# EAGLE library part EC12D1524403 (library EC12D1524403)
17,5mm Vertical encoder 15 Pulses 30 DET Source: Datasheet <https://www.alps.com/prod/info/E/HTML/Encoder/Incremental/EC12E/EC12D1524403.html>
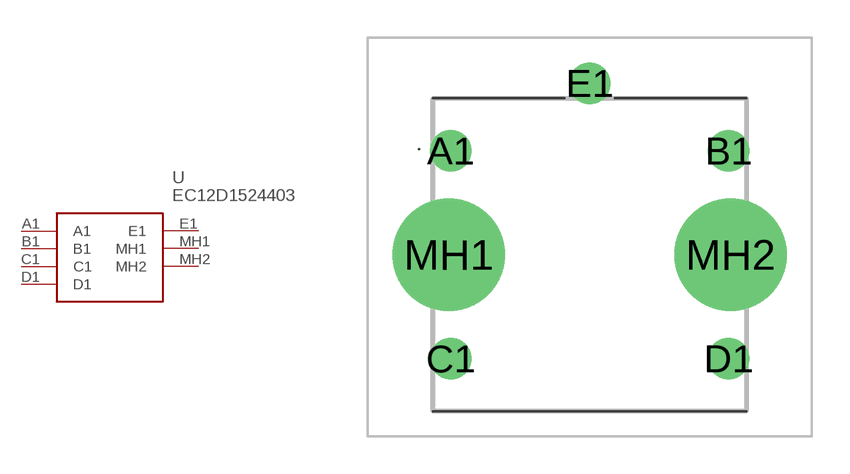
[diagram p0: symbol with the pads of EC12D1524403; footprint EC12D1524403]

Designator prefix U

## EC12D1524403 (Description: 17,5mm Vertical encoder 15 Pulses 30 DET; Height: 17.5mm; Manufacturer_Name: ALPS Electric; Manufacturer_Part_Number: EC12D1524403; Mouser_Part_Number: 688-EC12D1524403; Mouser_Price-Stock: https://www.mouser.co.uk/ProductDetail/Alps-Alpine/EC12D1524403?qs=6EGMNY9ZYDSnlYGJrjCewg%3D%3D)  [EC12D1524403]
A1  A1
B1  B1
C1  C1
D1  D1
E1  E1
MH1  MH1
MH2  MH2

## Footprint EC12D1524403 (pad centres in mm)
EC12D1524403
drill 1.1 pad 1.65: A1 -5.55,4.15; B1 5.55,4.15; C1 -5.55,-4.15; D1 5.55,-4.15; E1 0,6.85
drill 2.97 pad 4.5: MH1 -5.625,0; MH2 5.625,0